# Altium footprint library BME280.PcbLib: 1 footprints
Each footprint in its own frame and in the unit in brackets; x right, y up, seen from the top. Pads: shape width x height; smd on the part's side, far side on the other; paste and mask are expansions set on the pad; w line width, h text height; cw(c..) or ccw(c..) is an arc to the next point about the centre after c.
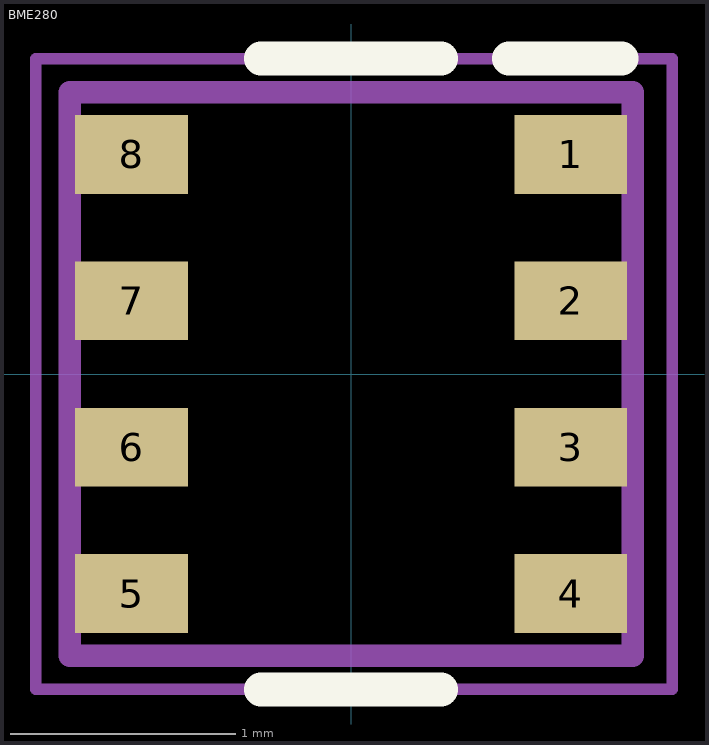
[diagram p0: the footprint, top view; thin cyan lines are the x and y axes]

## BME280 [mm]
pads (8):
  rect 0.5x0.35 smd: 1(0.975,0.975) 2(0.975,0.325) 3(0.975,-0.325) 4(0.975,-0.975) 5(-0.975,-0.975) 6(-0.975,-0.325) 7(-0.975,0.325) 8(-0.975,0.975)
Top Overlay:
  lines w0.15: -0.4,-1.4 0.4,-1.4 ; -0.4,1.4 0.4,1.4 ; 0.7,1.4 1.2,1.4
Assembly:
  lines w0.1: -1.25,-1.25 -1.25,1.25 1.25,1.25 1.25,-1.25 -1.25,-1.25
Courtyard:
  lines w0.05: -1.4,-1.4 -1.4,1.4 1.425,1.4 1.425,-1.4 -1.4,-1.4
3D body "User Library-BME280-1.STEP": height 0.93, standoff 0, extent -1.25,-1.25 1.25,1.25